# Altium footprint library My Library.PcbLib: 161 footprints (part 4 of 11)
Each footprint in its own frame and in the unit in brackets; x right, y up, seen from the top. Pads: shape width x height; smd on the part's side, far side on the other; paste and mask are expansions set on the pad; w line width, h text height; cw(c..) or ccw(c..) is an arc to the next point about the centre after c.
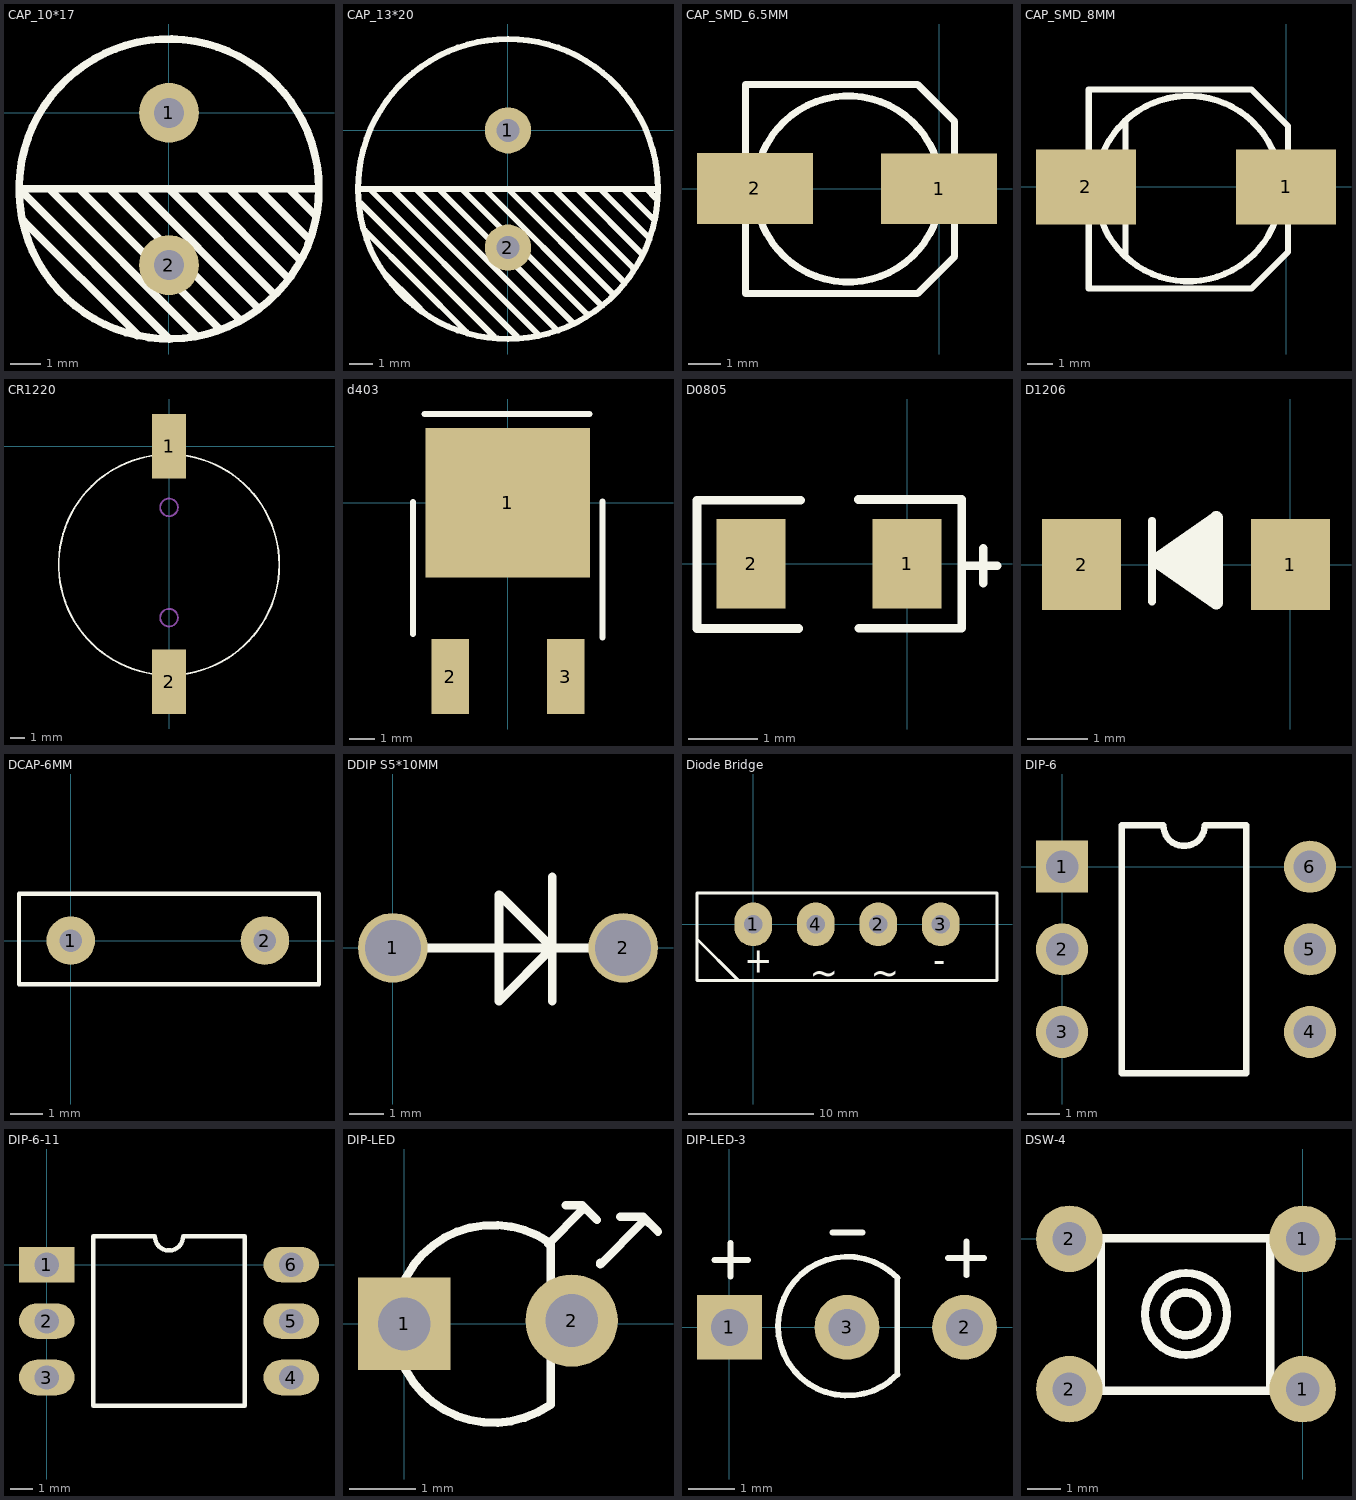
[diagram p3: the footprints below, top view; thin cyan lines are the x and y axes]

## CAP_10*17 [mm]
height 17
pads (2):
  round 2 hole 1: 1(0,0) 2(0,-5.08)
Top Overlay:
  circle w0.254: c0,-2.54 r5
  lines w0.2: -2.1,-2.54 -2,-2.54 ; -0.1,-2.54 0,-2.54 ; 3,-2.54 3.1,-2.54
  lines w0.254: -4.837,-3.612 -1.025,-7.425 ; -4,-2.54 0.917,-7.458 ; -3,-2.54 1.662,-7.188 ; -2,-2.54 2.343,-6.882 ; -1,-2.54 2.98,-6.52 ; 0,-2.54 3.492,-6.032 ; 0.005,-7.545 -5,-2.54 4.925,-2.54 ; 1,-2.54 3.967,-5.507 ; 2,-2.54 4.367,-4.908 ; 3,-2.54 4.693,-4.232 ; 4,-2.54 4.88,-3.42

## CAP_13*20 [mm]
height 20
pads (2):
  round 2 hole 1: 1(0,0) 2(0,-5.08)
Top Overlay:
  circle w0.254: c0,-2.54 r6.5
  lines w0.2: -2.1,-2.54 -2,-2.54 ; -0.1,-2.54 0,-2.54 ; 3,-2.54 3.1,-2.54 ; 6.4,-3.64 6.4,-3.54
  lines w0.254: -6.5,-2.54 6.5,-2.54 ; -6.4,-3.14 -3,-6.54 -0.6,-8.94 ; -6.2,-4.34 -4,-6.54 -1.8,-8.74 ; -6,-2.54 0.4,-8.94 ; -5.4,-6.14 -4,-7.54 -3.6,-7.94 ; -5,-2.54 1.3,-8.84 ; -4,-2.54 2.1,-8.64 ; -3,-2.54 2.8,-8.34 ; -2,-2.54 3.4,-7.94 ; -1,-2.54 4,-7.54 ; 0,-2.54 4.5,-7.04 ; 1,-2.54 5,-6.54 ; 2,-2.54 5.4,-5.94 ; 3,-2.54 5.8,-5.34 ; 4,-2.54 6.1,-4.64 ; 5,-2.54 6.3,-3.84 ; 6,-2.54 6.4,-2.94
3D body: height 20, standoff 0, extent -6.475,-8.975 6.474,3.999

## CAP_SMD_6.5MM [mm]
pads (2):
  rect 3.6x2.2 smd: 1(0,0) 2(-5.73,0.01)
Top Overlay:
  circle w0.22: c-2.826,-0.008 r2.894
  lines w0.22: 0.484,2.082 0.484,-2.108 -0.666,-3.258 -6.016,-3.258 -6.016,3.242 -0.666,3.242 0.484,2.092
3D body: height 6, standoff 0, extent -6.05,-3.224 0.437,3.25

## CAP_SMD_8MM [mm]
height 9.5
pads (2):
  rect 4x3 smd: 1(0,0) 2(-8.01,0)
Top Overlay:
  circle w0.25: c-3.908,-0.07 r3.711
  lines w0.25: -7.898,-4.07 -7.898,3.9 -1.388,3.9 0.082,2.43 0.082,2.09 ; -7.888,-4.07 -1.388,-4.07 0.082,-2.6 0.082,2.2 ; -6.428,-2.8 -6.428,2.53
3D body: height 9.6, standoff 0.1, extent -8,-3.993 -0.016,3.975

## CR1220 [mm]
height 4.25
pads (2):
  rect 2.3x4.4 smd: 1(0,0) 2(0,-16)
Top Overlay:
  circle w0.127: c0,-8.05 r7.5
Mechanical 1:
  circle w0.127: c0,-11.65 r0.6
  circle w0.127: c0,-4.15 r0.6

## d403 [mm]
pads (3):
  rect 6.6x6 smd: 1(0,0)
  rect 1.5x3 smd: 2(-2.3,-6.964) 3(2.323,-6.964)
Top Overlay:
  lines w0.254: -3.796,-5.262 -3.796,-0.614 -3.796,0.021 ; -3.327,3.552 3.277,3.552 ; 3.793,-5.389 3.793,0.047

## D0805 [mm]
height 1
pads (2):
  rect 1x1.3 smd: 1(0,0) 2(-2.261,0)
Top Overlay:
  lines w0.127: -1.57,-0.938 -3.045,-0.938 -3.045,0.923 -1.546,0.923 ; -0.703,0.933 0.79,0.933 ; -0.695,-0.935 0.793,-0.935 0.793,0.933 ; 0.793,-0.027 1.305,-0.027 ; 1.105,-0.277 1.105,-0.027 1.105,0.223
3D body: height 1, standoff 0, extent -2.27,-0.552 -0.02,0.548

## D1206 [mm]
height 1
pads (2):
  rect 1.3x1.5 smd: 1(0,0) 2(-3.442,0.002)
Top Overlay:
  region: -2.05,0.05 -2.025,0.025 -1.2,0.025 -1.2,0.7 -1.225,0.675 -1.475,0.675 -2.075,0.075 -1.875,0.075
  region: -1.25,0.075 -1.225,0.05 -1.25,0.025 -1.25,-0.55 -1.425,-0.55 -2.05,0.075
  lines w0.127: -2.282,-0.608 -2.282,0.722
  lines w0.22: -2.222,0.072 -1.222,-0.628 -1.222,0.772 -2.222,0.072

## DCAP-6MM [mm]
height 8
pads (2):
  round 1.5 hole 0.7: 1(0,0) 2(6,0)
Top Overlay:
  lines w0.127: -1.4,-1.35 7.675,-1.35 7.675,1.45 -1.6,1.45 -1.6,-1.35 -1.35,-1.35

## DDIP S5*10MM [mm]
height 8
pads (2):
  round 2 hole 1.6: 1(0,0) 2(6.604,0)
Top Overlay:
  lines w0.254: 0.508,0 6.096,0 ; 4.572,-1.524 4.572,2.032 ; 3.048,-1.524 4.572,0 3.048,1.524 3.048,-1.524

## Diode Bridge [mm]
height 18.5
pads (4):
  oval 3x3.5 hole 1.5: 1(0,0) 2(10,0) 3(15,0) 4(5,0)
Top Overlay:
  lines w0.254: -4.5,-1.175 -1.187,-4.488 ; -4.5,-4.5 19.5,-4.5 19.5,2.5 -4.5,2.5 -4.5,-4.5
  text "~" at 4.5,-4.85 h2
  text "~" at 9.4,-4.85 h2
  text "+" at -0.701,-3.875 h2
  text "-" at 14.4,-3.85 h2

## DIP-6 [mm]
height 3
pads (6):
  rect 1.6x1.6 hole 1: 1(0,0)
  round 1.6 hole 1: 2(0,-2.54) 3(0,-5.08) 4(7.62,-5.08) 5(7.62,-2.54) 6(7.62,0)
Top Overlay:
  lines w0.2: 1.835,-6.35 1.835,1.27 3.115,1.27 ccw(c3.75,1.27) 4.385,1.27 5.665,1.27 5.665,-6.35 1.835,-6.35

## DIP-6-11 [mm]
height 3
pads (6):
  rect 2.5x1.6 hole 1.1: 1(0,0)
  oval 2.5x1.6 hole 1.1: 2(0,-2.54) 3(0,-5.08) 4(11,-5.08) 5(11,-2.54) 6(11,0)
Top Overlay:
  lines w0.2: 2.085,-6.35 8.915,-6.35 8.915,1.27 6.135,1.27 cw(c5.5,1.27) 4.865,1.27 2.085,1.27 2.085,-6.35

## DIP-LED [mm]
height 5
pads (2):
  rect 1.4x1.4 hole 0.8: 1(0,0)
  round 1.4 hole 0.8: 2(2.54,0.05)
Top Overlay:
  lines w0.127: 2.187,1.212 2.7,1.725 ; 2.205,-1.232 cw(c1.35,0) 2.205,1.232 ; 2.225,-1.225 2.225,1.2 ; 2.45,1.8 2.7,1.8 2.925,1.575 ; 2.975,0.925 2.975,0.9 3.625,1.55 ; 3.275,1.625 3.625,1.625 3.85,1.4

## DIP-LED-3 [mm]
height 5
pads (3):
  rect 1.4x1.4 hole 0.8: 1(0,0)
  round 1.4 hole 0.8: 2(5.08,0) 3(2.54,0)
Top Overlay:
  lines w0.127: -0.325,1.45 0.4,1.45 ; 0.025,1.1 0.025,1.825 ; 2.225,2.05 2.875,2.05 ; 3.625,-1.025 3.625,1.075 ; 3.627,-1.019 cw(c2.55,0.025) 3.628,1.068 ; 4.725,1.5 5.5,1.5 ; 5.125,1.125 5.125,1.85

## DSW-4 [mm]
height 4
pads (4):
  round 2 hole 1: 1(0,-4.51) 1(0,0) 2(-7,-4.51) 2(-7,0)
Top Overlay:
  circle w0.25: c-3.5,-2.254 r0.64
  circle w0.25: c-3.5,-2.254 r1.23
  lines w0.25: -6.05,0.016 -6.05,-4.554 -0.97,-4.554 -0.97,0.016 -6.01,0.016
Bottom Overlay:
  lines w0.25: -6.05,-4.554 -0.97,-4.554 -0.97,0.016 -6.05,0.016 -6.05,-4.554